# Altium schematic symbol library TPS61040DBVR.Schlib: 1 symbol
Pins are listed as number, name and electrical type; pins without a type are passive.

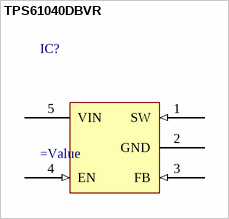
[diagram p0: symbol TPS61040DBVR]

## TPS61040DBVR
designator IC?
=Descriptiom
pins: 1 SW (in), 2 GND (power), 3 FB (in), 4 EN (in), 5 VIN (power)